# Altium schematic symbol library Conn,JST,2Pin,2mm,SMD.Schlib: 1 symbol
Pins are listed as number, name and electrical type; pins without a type are passive.

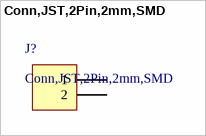
[diagram p0: symbol Conn,JST,2Pin,2mm,SMD]

## Conn,JST,2Pin,2mm,SMD
designator J?
Connector Header Surface Mount, Right Angle 2 position 0.079" (2.00mm)
pins: 1, 2